# Altium integrated library ESQ-103-14-G-S.IntLib: 1 symbol
Pins are listed as number, name and electrical type; pins without a type are passive.

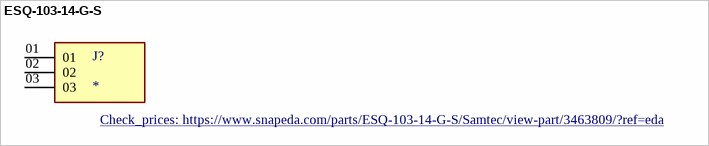
[diagram p0: symbol ESQ-103-14-G-S]

## ESQ-103-14-G-S
designator J?
Conn Elevated Socket SKT 3 POS 2.54mm Solder ST Top Entry Thru-Hole Bulk; MF: Samtec; MP: ESQ-103-14-G-S; SnapEDA_Link: https://www.snapeda.com/parts/ESQ-103-14-G-S/Samtec/view-part/3463809/?ref=snap; Availability: Bad; Price: None; Value: *; Package: None; Check_prices: https://www.snapeda.com/parts/ESQ-103-14-G-S/Samtec/view-part/3463809/?ref=eda
footprint SAMTEC_ESQ-103-14-G-S
pins: 01, 02, 03